# Altium footprint library SumWkshop.PcbLib: 4 footprints
Each footprint in its own frame and in the unit in brackets; x right, y up, seen from the top. Pads: shape width x height; smd on the part's side, far side on the other; paste and mask are expansions set on the pad; w line width, h text height; cw(c..) or ccw(c..) is an arc to the next point about the centre after c.
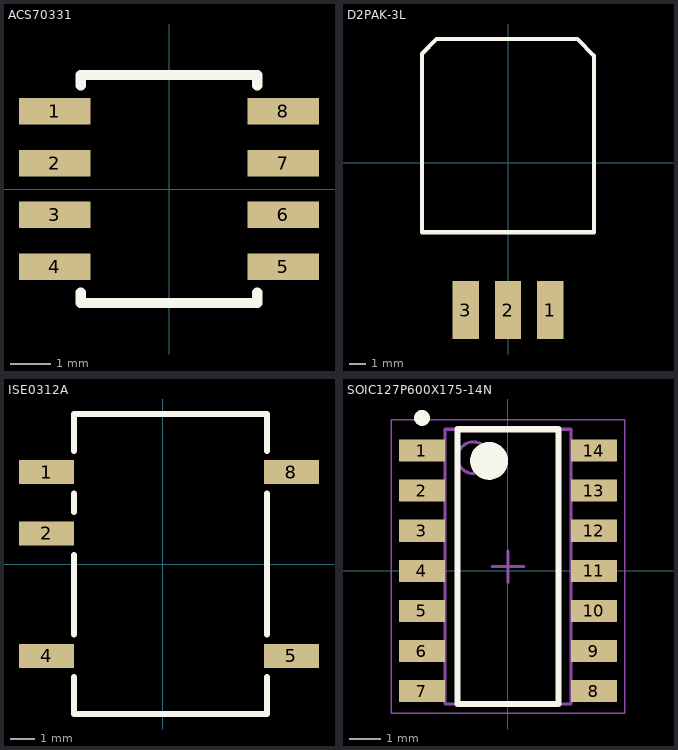
[diagram p0: the footprints below, top view; thin cyan lines are the x and y axes]

## ACS70331 [mil] "8-SOIC model; 8 leads"
pads (8):
  rect 68.9x25.6 smd: 1(-110.24,75) 2(-110.24,25) 3(-110.24,-25) 4(-110.24,-75) 5(110.24,-75) 6(110.24,-25) 7(110.24,25) 8(110.24,75)
Top Overlay:
  lines w10: -85,-100 -85,-110 85,-110 85,-100 ; -85,100 -85,110 85,110 85,100
3D body "Allegro-OL-8-Package.STEP": height 61.75, standoff -1.25, extent -118.01,-96.64 118.21,96.27

## D2PAK-3L [mil]
pads (3):
  rect 63x137.8 smd: 1(100,-350) 2(0,-350) 3(-100,-350)
Top Overlay:
  lines w10: -205,-165 -205,260 -170,295 165,295 205,255 205,-165 -205,-165
3D body "D2PAK-3.step": height 200, standoff 0, extent -190,-399.99 190,279.17

## ISE0312A [mil] "8-SMD model; 5 leads"
height 287
pads (5):
  rect 90x39 smd: 1(-190,150) 2(-190,50) 4(-190,-150) 5(210,-150) 8(210,150)
Top Overlay:
  lines w10: -145,-185 -145,-245 170,-245 170,-185 ; -145,-115 -145,15 ; -145,85 -145,115 ; -145,185 -145,245 170,245 170,185 ; 170,-115 170,115
3D body "ISE.STEP": height 285.01, standoff -0.43, extent -210.47,-250 230.47,250

## SOIC127P600X175-14N [mm] "SOIC, 14-Leads, Body 8.65x3.90mm, Pitch 1.27mm, IPC Medium Density"
height 1.75
pads (14):
  rect 1.45x0.7 smd: 1(-2.725,3.81) 2(-2.725,2.54) 3(-2.725,1.27) 4(-2.725,0) 5(-2.725,-1.27) 6(-2.725,-2.54) 7(-2.725,-3.81) 8(2.725,-3.81) 9(2.725,-2.54) 10(2.725,-1.27) 11(2.725,0) 12(2.725,1.27) 13(2.725,2.54) 14(2.725,3.81)
Top Overlay:
  circle w0.6: c-0.597,3.485 r0.3
  circle w0.25: c-2.722,4.845 r0.125
  lines w0.2: -1.597,-4.215 1.603,-4.215 1.603,4.485 -1.597,4.485 -1.597,-4.215
Mechanical 13:
  circle w0.1: c-1.097,3.585 r0.5
  lines w0.1: -1.997,-4.215 2.003,-4.215 2.003,4.485 -1.997,4.485 -1.997,-4.215
Mechanical 15:
  lines w0.05: -3.697,-4.515 3.703,-4.515 3.703,4.785 -3.697,4.785 -3.697,-4.515
  lines w0.1: -0.497,0.135 0.503,0.135 ; 0.003,-0.365 0.003,0.635
3D body "Infineon-STP_PG-DSO-14-903-P-v01_00-EN.stp": height 1.56, standoff 0, extent -2.997,-4.19 3.003,4.46